# EAGLE library part MC33060ADG (library On Semiconductor)
Fixed Frequency, PWM, Voltage Mode Single Ended Controllers
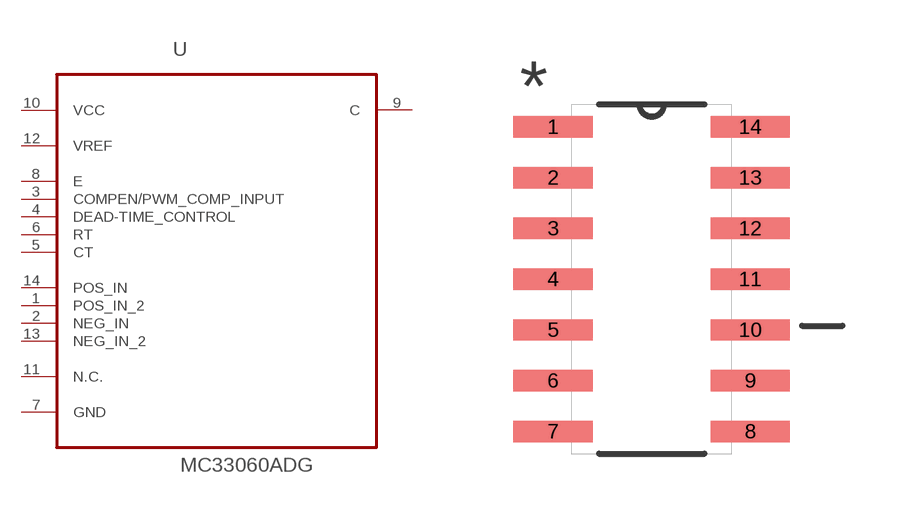
[diagram p322: symbol with the pads of SOIC127P600X175-14N; footprint SOIC127P600X175-14N]

Designator prefix U

## MC33060ADG (MPN: MC33060ADG; OC_FARNELL: 1468735; OC_NEWARK: 71J5511; PACKAGE: SOIC-14; SUPPLIER: ON SEMICONDUCTOR)  [SOIC127P600X175-14N]
1  POS_IN_2  in
2  NEG_IN  in
3  COMPEN/PWM_COMP_INPUT  in
4  DEAD-TIME_CONTROL  in
5  CT  in
6  RT  in
7  GND  pas
8  E  in
9  C  out
10  VCC  pwr
11  N.C.  nc
12  VREF  in
13  NEG_IN_2  in
14  POS_IN  in

## Footprint SOIC127P600X175-14N (pad centres in mm)
smd 1.981 x 0.533: 1 -2.464,3.81; 2 -2.464,2.54; 3 -2.464,1.27; 4 -2.464,0; 5 -2.464,-1.27; 6 -2.464,-2.54; 7 -2.464,-3.81; 8 2.464,-3.81; 9 2.464,-2.54; 10 2.464,-1.27; 11 2.464,0; 12 2.464,1.27; 13 2.464,2.54; 14 2.464,3.81